# EAGLE library part MX23A34 (library JAE)
MX23A34NF2 JAE-Connector.com 34-pin, dual row
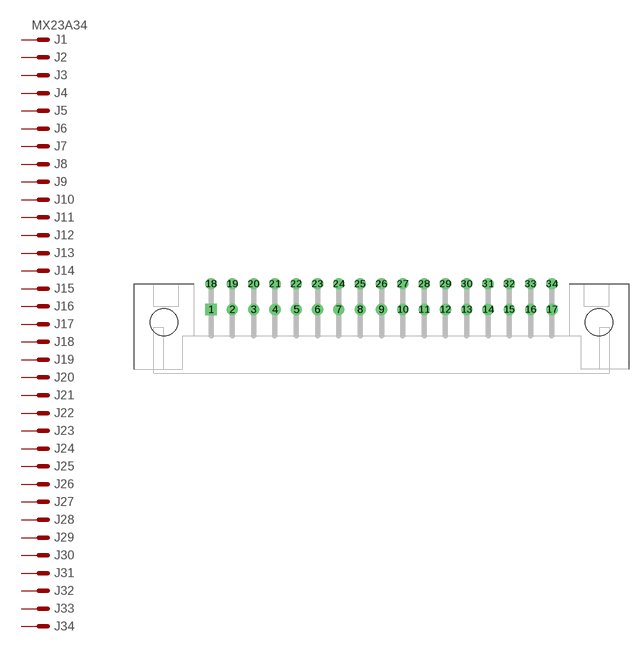
[diagram p0: symbol with the pads of MX23A34; footprint MX23A34]

Designator prefix J; gates 1=MV 2=M 3=M 4=M 5=M 6=M 7=M 8=M 9=M 10=M 11=M 12=M 13=M 14=M 15=M 16=M 17=M 18=M 19=M 20=M 21=M 22=M 23=M 24=M 25=M 26=M 27=M 28=M 29=M 30=M 31=M 32=M 33=M 34=M

## MX23A34NF2  [MX23A34]
1  1:S  pas
2  2:S  pas
3  3:S  pas
4  4:S  pas
5  5:S  pas
6  6:S  pas
7  7:S  pas
8  8:S  pas
9  9:S  pas
10  10:S  pas
11  11:S  pas
12  12:S  pas
13  13:S  pas
14  14:S  pas
15  15:S  pas
16  16:S  pas
17  17:S  pas
18  18:S  pas
19  19:S  pas
20  20:S  pas
21  21:S  pas
22  22:S  pas
23  23:S  pas
24  24:S  pas
25  25:S  pas
26  26:S  pas
27  27:S  pas
28  28:S  pas
29  29:S  pas
30  30:S  pas
31  31:S  pas
32  32:S  pas
33  33:S  pas
34  34:S  pas

## Footprint MX23A34 (pad centres in mm)
drill 0.8 square: 1 -20,1.5
drill 0.8 round: 2 -17.5,1.5; 3 -15,1.5; 4 -12.5,1.5; 5 -10,1.5; 6 -7.5,1.5; 7 -5,1.5; 8 -2.5,1.5; 9 0,1.5; 10 2.5,1.5; 11 5,1.5; 12 7.5,1.5; 13 10,1.5; 14 12.5,1.5; 15 15,1.5; 16 17.5,1.5; 17 20,1.5; 18 -20,4.5; 19 -17.5,4.5; 20 -15,4.5; 21 -12.5,4.5; 22 -10,4.5; 23 -7.5,4.5; 24 -5,4.5; 25 -2.5,4.5; 26 0,4.5; 27 2.5,4.5; 28 5,4.5; 29 7.5,4.5; 30 10,4.5; 31 12.5,4.5; 32 15,4.5; 33 17.5,4.5; 34 20,4.5
hole 3.2 at -25.5,0
hole 3.2 at 25.5,0